# Altium schematic symbol library ISO7741.SchLib: 1 symbol
Pins are listed as number, name and electrical type; pins without a type are passive.

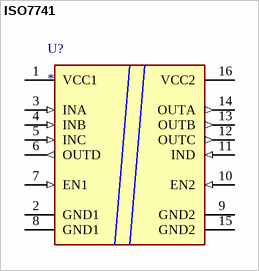
[diagram p0: symbol ISO7741]

## ISO7741
designator U?
pins: 1 VCC1, 2 GND1, 3 INA (in), 4 INB (in), 5 INC (in), 6 OUTD (out), 7 EN1 (in), 8 GND1, 9 GND2, 10 EN2 (in), 11 IND (in), 12 OUTC (out), 13 OUTB (out), 14 OUTA (out), 15 GND2, 16 VCC2